# EAGLE library part 6PIN_JUMPER (library Connectors)
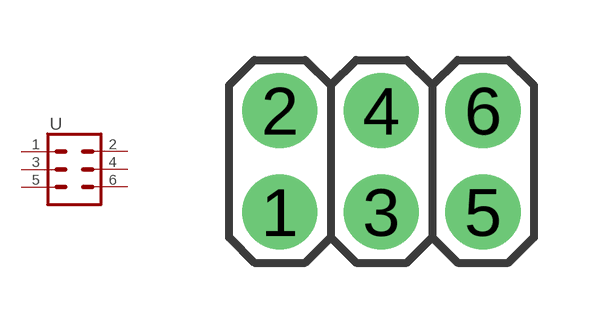
[diagram p4: symbol with the pads of 2X3; footprint 2X3]

Designator prefix -

## 6PIN_JUMPER (MFG: Würth; PN: 61300621121)  [2X3]
1  1
2  2
3  3
4  4
5  5
6  6

## Footprint 2X3 (pad centres in mm)
Plated Through Hole - 2x3 Footprint
drill 1.016 pad 1.88: 1 0,0; 2 0,2.54; 3 2.54,0; 4 2.54,2.54; 5 5.08,0; 6 5.08,2.54